# EAGLE library part 416131160804 (library Switches_rev16a)
WS-HP-1.27 mm small compact SMD Dip Switch with top tape,8 pins,4 poles
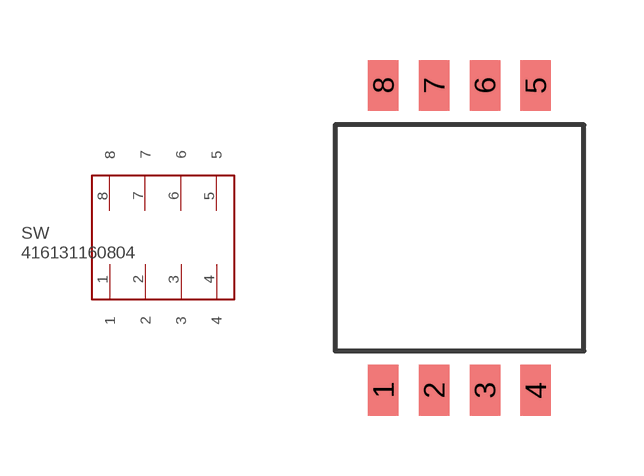
[diagram p25: symbol with the pads of 416131160804; footprint 416131160804]

Designator prefix SW

## 416131160804  [416131160804]
1  1
2  2
3  3
4  4
5  5
6  6
7  7
8  8

## Footprint 416131160804 (pad centres in mm)
WS-HP-1.27 mm small compact SMD Dip Switch with top tape,8 pins,4 poles
smd 0.76 x 1.27: 1 -1.905,-3.81; 2 -0.635,-3.81; 3 0.635,-3.81; 4 1.905,-3.81; 5 1.905,3.81; 6 0.635,3.81; 7 -0.635,3.81; 8 -1.905,3.81